# Altium schematic symbol library CAP_RET_0805_YAG.SchLib: 43 symbols
Pins are listed as number, name and electrical type; pins without a type are passive.

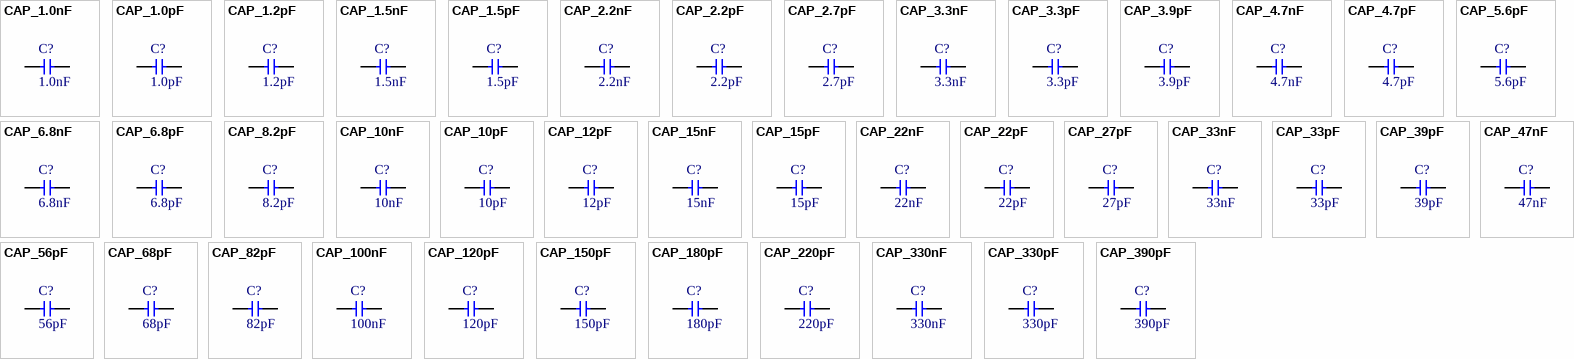
[diagram p0: symbols CAP_1.0nF to CAP_390pF]

## CAP_1.0nF
designator C?, comment 1.0nF
YAGEO Ceramic Capacitor; Voltage: 50; Tolerance: 10%; Characteristic: NPO; Supplier: RET 93-00-95
footprint FP_0805_CAP_060 (0805 kapacitás YAGEO 0.6 mm magas)
pins: 1, 2

## CAP_1.0pF
designator C?, comment 1.0pF
YAGEO Ceramic Capacitor; Voltage: 50; Tolerance: ±0,25pF; Characteristic: NPO; Supplier: RET 93-01-07
footprint FP_0805_CAP_060 (0805 kapacitás YAGEO 0.6 mm magas)
pins: 1, 2

## CAP_1.2pF
designator C?, comment 1.2pF
YAGEO Ceramic Capacitor; Voltage: 50; Tolerance: ±0,25pF; Characteristic: NPO; Supplier: RET 93-01-08
footprint FP_0805_CAP_060 (0805 kapacitás YAGEO 0.6 mm magas)
pins: 1, 2

## CAP_1.5nF
designator C?, comment 1.5nF
YAGEO Ceramic Capacitor; Voltage: 50; Tolerance: 10%; Characteristic: NPO; Supplier: RET 93-00-96
footprint FP_0805_CAP_060 (0805 kapacitás YAGEO 0.6 mm magas)
pins: 1, 2

## CAP_1.5pF
designator C?, comment 1.5pF
YAGEO Ceramic Capacitor; Voltage: 50; Tolerance: ±0,25pF; Characteristic: NPO; Supplier: RET 93-01-09
footprint FP_0805_CAP_060 (0805 kapacitás YAGEO 0.6 mm magas)
pins: 1, 2

## CAP_2.2nF
designator C?, comment 2.2nF
YAGEO Ceramic Capacitor; Voltage: 50; Tolerance: 10%; Characteristic: NPO; Supplier: RET 93-00-97
footprint FP_0805_CAP_060 (0805 kapacitás YAGEO 0.6 mm magas)
pins: 1, 2

## CAP_2.2pF
designator C?, comment 2.2pF
YAGEO Ceramic Capacitor; Voltage: 50; Tolerance: ±0,25pF; Characteristic: NPO; Supplier: RET 93-01-11
footprint FP_0805_CAP_060 (0805 kapacitás YAGEO 0.6 mm magas)
pins: 1, 2

## CAP_2.7pF
designator C?, comment 2.7pF
YAGEO Ceramic Capacitor; Voltage: 50; Tolerance: ±0,25pF; Characteristic: NPO; Supplier: RET 93-01-12
footprint FP_0805_CAP_060 (0805 kapacitás YAGEO 0.6 mm magas)
pins: 1, 2

## CAP_3.3nF
designator C?, comment 3.3nF
YAGEO Ceramic Capacitor; Voltage: 50; Tolerance: 10%; Characteristic: NPO; Supplier: RET 93-00-98
footprint FP_0805_CAP_060 (0805 kapacitás YAGEO 0.6 mm magas)
pins: 1, 2

## CAP_3.3pF
designator C?, comment 3.3pF
YAGEO Ceramic Capacitor; Voltage: 50; Tolerance: ±0,25pF; Characteristic: NPO; Supplier: RET 93-01-13
footprint FP_0805_CAP_060 (0805 kapacitás YAGEO 0.6 mm magas)
pins: 1, 2

## CAP_3.9pF
designator C?, comment 3.9pF
YAGEO Ceramic Capacitor; Voltage: 50; Tolerance: ±0,25pF; Characteristic: NPO; Supplier: RET 93-01-14
footprint FP_0805_CAP_060 (0805 kapacitás YAGEO 0.6 mm magas)
pins: 1, 2

## CAP_4.7nF
designator C?, comment 4.7nF
YAGEO Ceramic Capacitor; Voltage: 50; Tolerance: 10%; Characteristic: NPO; Supplier: RET 93-00-99
footprint FP_0805_CAP_060 (0805 kapacitás YAGEO 0.6 mm magas)
pins: 1, 2

## CAP_4.7pF
designator C?, comment 4.7pF
YAGEO Ceramic Capacitor; Voltage: 50; Tolerance: ±0,25pF; Characteristic: NPO; Supplier: RET 93-01-15
footprint FP_0805_CAP_060 (0805 kapacitás YAGEO 0.6 mm magas)
pins: 1, 2

## CAP_5.6pF
designator C?, comment 5.6pF
YAGEO Ceramic Capacitor; Voltage: 50; Tolerance: ±0,5pF; Characteristic: NPO; Supplier: RET 93-01-16
footprint FP_0805_CAP_060 (0805 kapacitás YAGEO 0.6 mm magas)
pins: 1, 2

## CAP_6.8nF
designator C?, comment 6.8nF
YAGEO Ceramic Capacitor; Voltage: 50; Tolerance: 10%; Characteristic: NPO; Supplier: RET 93-01-00
footprint FP_0805_CAP_060 (0805 kapacitás YAGEO 0.6 mm magas)
pins: 1, 2

## CAP_6.8pF
designator C?, comment 6.8pF
YAGEO Ceramic Capacitor; Voltage: 50; Tolerance: 5%; Characteristic: NPO; Supplier: RET 93-01-17
footprint FP_0805_CAP_060 (0805 kapacitás YAGEO 0.6 mm magas)
pins: 1, 2

## CAP_8.2pF
designator C?, comment 8.2pF
YAGEO Ceramic Capacitor; Voltage: 50; Tolerance: 5%; Characteristic: NPO; Supplier: RET 93-01-18
footprint FP_0805_CAP_060 (0805 kapacitás YAGEO 0.6 mm magas)
pins: 1, 2

## CAP_10nF
designator C?, comment 10nF
YAGEO Ceramic Capacitor; Voltage: 50; Tolerance: 10%; Characteristic: NPO; Supplier: RET 93-01-01
footprint FP_0805_CAP_060 (0805 kapacitás YAGEO 0.6 mm magas)
pins: 1, 2

## CAP_10pF
designator C?, comment 10pF
YAGEO Ceramic Capacitor; Voltage: 50; Tolerance: 5%; Characteristic: NPO; Supplier: RET 93-00-83
footprint FP_0805_CAP_060 (0805 kapacitás YAGEO 0.6 mm magas)
pins: 1, 2

## CAP_12pF
designator C?, comment 12pF
YAGEO Ceramic Capacitor; Voltage: 50; Tolerance: 5%; Characteristic: NPO; Supplier: RET 93-01-92
footprint FP_0805_CAP_060 (0805 kapacitás YAGEO 0.6 mm magas)
pins: 1, 2

## CAP_15nF
designator C?, comment 15nF
YAGEO Ceramic Capacitor; Voltage: 50; Tolerance: 10%; Characteristic: NPO; Supplier: RET 93-01-02
footprint FP_0805_CAP_060 (0805 kapacitás YAGEO 0.6 mm magas)
pins: 1, 2

## CAP_15pF
designator C?, comment 15pF
YAGEO Ceramic Capacitor; Voltage: 50; Tolerance: 5%; Characteristic: NPO; Supplier: RET 93-00-84
footprint FP_0805_CAP_060 (0805 kapacitás YAGEO 0.6 mm magas)
pins: 1, 2

## CAP_22nF
designator C?, comment 22nF
YAGEO Ceramic Capacitor; Voltage: 50; Tolerance: 10%; Characteristic: NPO; Supplier: RET 93-01-03
footprint FP_0805_CAP_060 (0805 kapacitás YAGEO 0.6 mm magas)
pins: 1, 2

## CAP_22pF
designator C?, comment 22pF
YAGEO Ceramic Capacitor; Voltage: 50; Tolerance: 5%; Characteristic: NPO; Supplier: RET 93-00-85
footprint FP_0805_CAP_060 (0805 kapacitás YAGEO 0.6 mm magas)
pins: 1, 2

## CAP_27pF
designator C?, comment 27pF
YAGEO Ceramic Capacitor; Voltage: 50; Tolerance: 5%; Characteristic: NPO; Supplier: RET 93-01-45
footprint FP_0805_CAP_060 (0805 kapacitás YAGEO 0.6 mm magas)
pins: 1, 2

## CAP_33nF
designator C?, comment 33nF
YAGEO Ceramic Capacitor; Voltage: 50; Tolerance: 10%; Characteristic: NPO; Supplier: RET 93-01-04
footprint FP_0805_CAP_085
pins: 1, 2

## CAP_33pF
designator C?, comment 33pF
YAGEO Ceramic Capacitor; Voltage: 50; Tolerance: 5%; Characteristic: NPO; Supplier: RET 93-00-86
footprint FP_0805_CAP_060 (0805 kapacitás YAGEO 0.6 mm magas)
pins: 1, 2

## CAP_39pF
designator C?, comment 39pF
YAGEO Ceramic Capacitor; Voltage: 50; Tolerance: 5%; Characteristic: NPO; Supplier: RET 93-01-93
footprint FP_0805_CAP_060 (0805 kapacitás YAGEO 0.6 mm magas)
pins: 1, 2

## CAP_47nF
designator C?, comment 47nF
YAGEO Ceramic Capacitor; Voltage: 50; Tolerance: 10%; Characteristic: NPO; Supplier: RET 93-01-05
footprint FP_0805_CAP_085
pins: 1, 2

## CAP_56pF
designator C?, comment 56pF
YAGEO Ceramic Capacitor; Voltage: 50; Tolerance: 5; Characteristic: X7R; Supplier: RET 93-04-89
footprint FP_0805_CAP_060 (0805 kapacitás YAGEO 0.6 mm magas)
pins: 1, 2

## CAP_68pF
designator C?, comment 68pF
YAGEO Ceramic Capacitor; Voltage: 50; Tolerance: 5%; Characteristic: X7R; Supplier: RET 93-00-88
footprint FP_0805_CAP_060 (0805 kapacitás YAGEO 0.6 mm magas)
pins: 1, 2

## CAP_82pF
designator C?, comment 82pF
YAGEO Ceramic Capacitor; Voltage: 50; Tolerance: 5%; Characteristic: X7R; Supplier: RET 93-01-63
footprint FP_0805_CAP_060 (0805 kapacitás YAGEO 0.6 mm magas)
pins: 1, 2

## CAP_100nF
designator C?, comment 100nF
YAGEO Ceramic Capacitor; Voltage: 50; Tolerance: 10%; Characteristic: X7R; Supplier: RET 93-04-28
footprint FP_0805_CAP_085
pins: 1, 2

## CAP_120pF
designator C?, comment 120pF
YAGEO Ceramic Capacitor; Voltage: 50; Tolerance: 5%; Characteristic: X7R; Supplier: RET 93-02-95
footprint FP_0805_CAP_060 (0805 kapacitás YAGEO 0.6 mm magas)
pins: 1, 2

## CAP_150pF
designator C?, comment 150pF
YAGEO Ceramic Capacitor; Voltage: 50; Tolerance: 5%; Characteristic: X7R; Supplier: RET 93-00-90
footprint FP_0805_CAP_060 (0805 kapacitás YAGEO 0.6 mm magas)
pins: 1, 2

## CAP_180pF
designator C?, comment 180pF
YAGEO Ceramic Capacitor; Voltage: 50; Tolerance: 5%; Characteristic: X7R; Supplier: RET 93-01-94
footprint FP_0805_CAP_060 (0805 kapacitás YAGEO 0.6 mm magas)
pins: 1, 2

## CAP_220pF
designator C?, comment 220pF
YAGEO Ceramic Capacitor; Voltage: 50; Tolerance: 5%; Characteristic: X7R; Supplier: RET 93-00-91
footprint FP_0805_CAP_060 (0805 kapacitás YAGEO 0.6 mm magas)
pins: 1, 2

## CAP_330nF
designator C?, comment 330nF
YAGEO Ceramic Capacitor; Voltage: 16; Tolerance: 10%; Characteristic: X7R; Supplier: RET 93-03-94
footprint FP_0805_CAP_125
pins: 1, 2

## CAP_330pF
designator C?, comment 330pF
YAGEO Ceramic Capacitor; Voltage: 50; Tolerance: 5%; Characteristic: X7R; Supplier: RET 93-00-92
footprint FP_0805_CAP_060 (0805 kapacitás YAGEO 0.6 mm magas)
pins: 1, 2

## CAP_390pF
designator C?, comment 390pF
YAGEO Ceramic Capacitor; Voltage: 50; Tolerance: 5%; Characteristic: X7R; Supplier: RET 93-01-95
footprint FP_0805_CAP_060 (0805 kapacitás YAGEO 0.6 mm magas)
pins: 1, 2

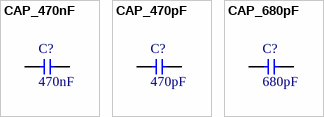
[diagram p1: symbols CAP_470nF to CAP_680pF]

## CAP_470nF
designator C?, comment 470nF
YAGEO Ceramic Capacitor; Voltage: 16; Tolerance: 10±; Characteristic: X7R; Supplier: RET 93-03-95
footprint FP_0805_CAP_125
pins: 1, 2

## CAP_470pF
designator C?, comment 470pF
YAGEO Ceramic Capacitor; Voltage: 50; Tolerance: 5%; Characteristic: X7R; Supplier: RET 93-00-93
footprint FP_0805_CAP_060 (0805 kapacitás YAGEO 0.6 mm magas)
pins: 1, 2

## CAP_680pF
designator C?, comment 680pF
YAGEO Ceramic Capacitor; Voltage: 50; Tolerance: 5%; Characteristic: X7R; Supplier: RET 93-00-94
footprint FP_0805_CAP_060 (0805 kapacitás YAGEO 0.6 mm magas)
pins: 1, 2